# Altium footprint library Con_PcbLib.PcbLib: 98 footprints (part 5 of 7)
Each footprint in its own frame and in the unit in brackets; x right, y up, seen from the top. Pads: shape width x height; smd on the part's side, far side on the other; paste and mask are expansions set on the pad; w line width, h text height; cw(c..) or ccw(c..) is an arc to the next point about the centre after c.
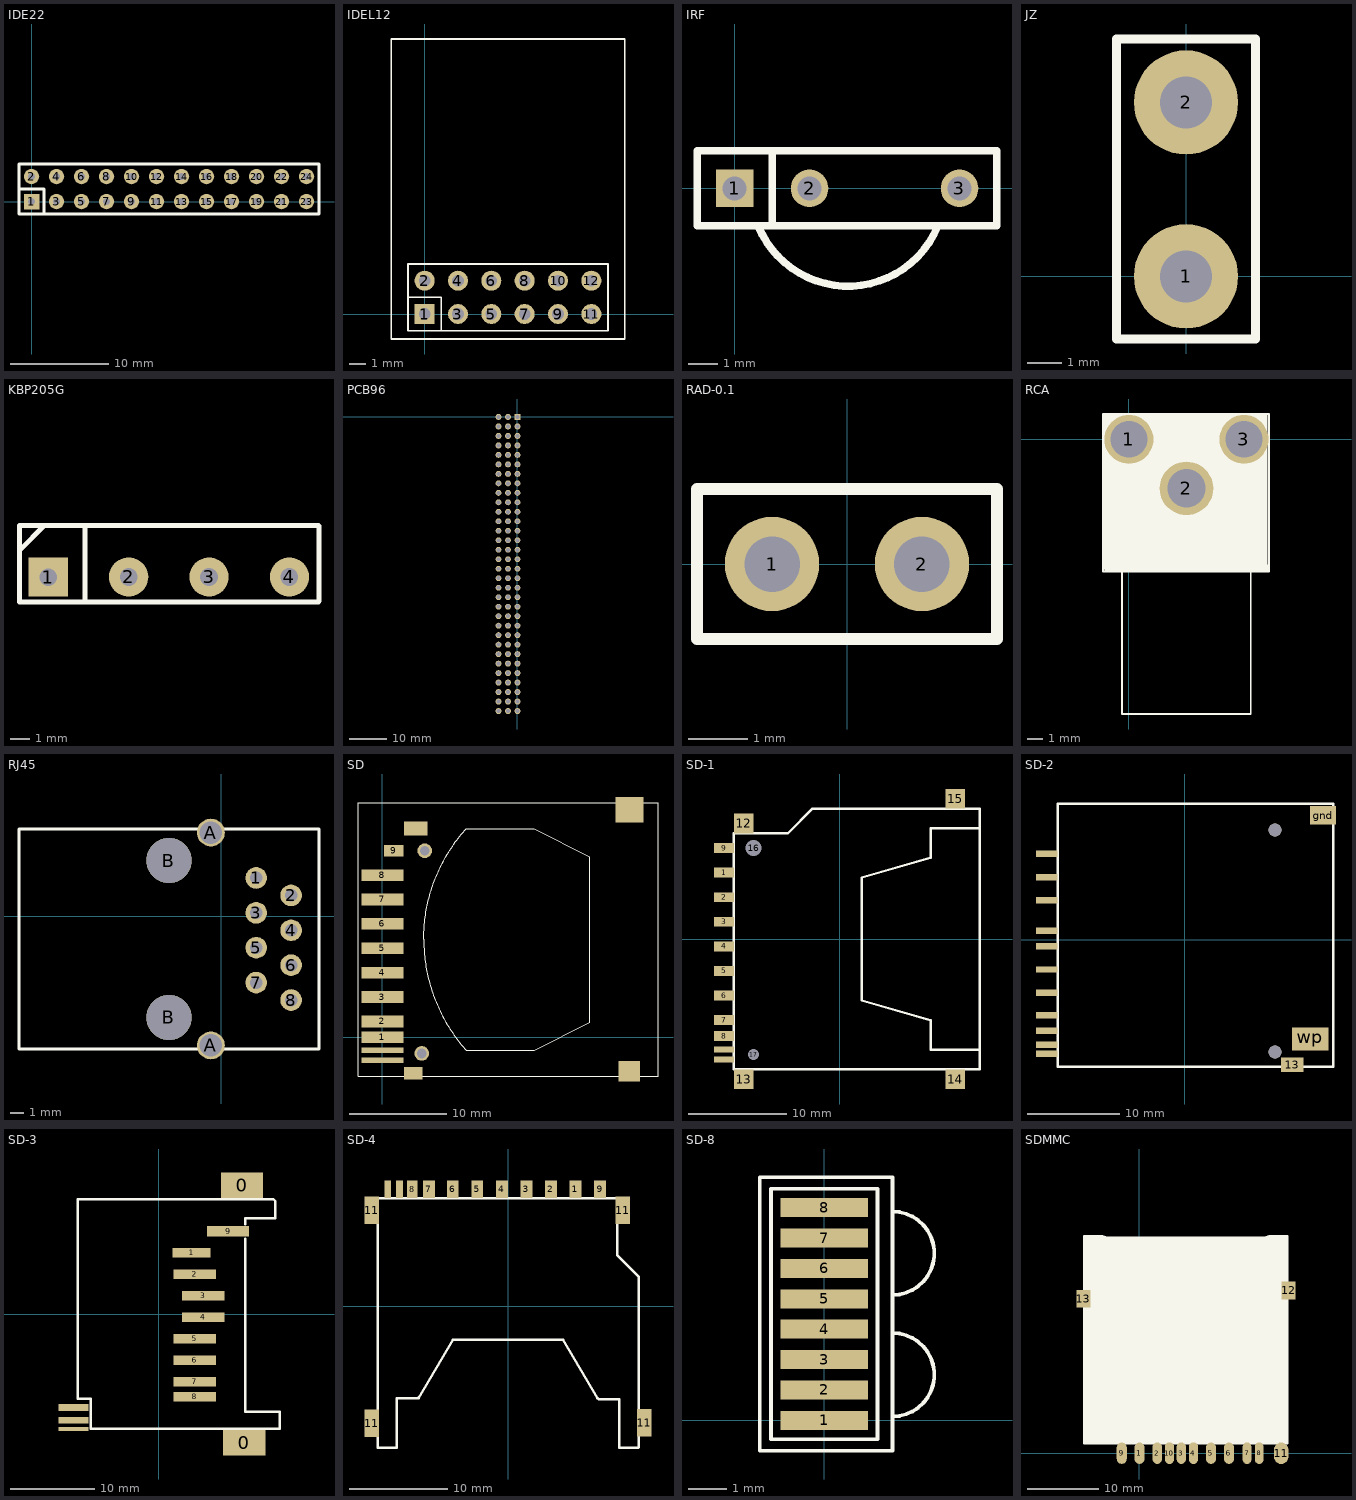
[diagram p4: the footprints below, top view; thin cyan lines are the x and y axes]

## IDE22 [mil]
pads (24):
  rect 62x62 hole 28: 1(0,0)
  round 62 hole 28: 2(0,100) 3(100,0) 4(100,100) 5(200,0) 6(200,100) 7(300,0) 8(300,100) 9(400,0) 10(400,100) 11(500,0) 12(500,100) 13(600,0) 14(600,100) 15(700,0) 16(700,100) 17(800,0) 18(800,100) 19(900,0) 20(900,100) 21(1000,0) 22(1000,100) 23(1100,0) 24(1100,100)
Top Overlay:
  lines w12: -50,50 50,50 50,-50 ; -50,-50 -50,150 1150,150 1150,-50 -50,-50

## IDEL12 [mm]
pads (12):
  rect 1.2x1.2 hole 0.7: 1(0,0)
  round 1.2 hole 0.7: 2(0,2) 3(2,0) 4(2,2) 5(4,0) 6(4,2) 7(6,0) 8(6,2) 9(8,0) 10(8,2) 11(10,0) 12(10,2)
Top Overlay:
  lines w0.1: -1,1 1,1 1,-1 ; -2,-1.5 -2,16.5 12,16.5 12,-1.5 -2,-1.5 ; -1,-1 -1,3 11,3 11,-1 -1,-1

## IRF [mil]
pads (3):
  rect 50x50 hole 32: 1(0,0)
  round 50 hole 32: 2(100,0) 3(300,0)
Top Overlay:
  lines w10: 31.5,-50 ccw(c151.36,-0.89) 270.94,-50.69 ; 50,-50 50,50 ; -50,-50 -50,50 350,50 350,-50 -50,-50

## JZ [mm]
pads (2):
  round 3 hole 1.5: 1(0,0) 2(0,5)
Top Overlay:
  lines w0.254: -2,-1.8 2,-1.8 2,6.825 -2,6.825 -2,-1.8

## KBP205G [mm]
pads (4):
  rect 2x2 hole 0.9: 1(-100.14,26.67)
  round 2 hole 0.9: 2(-96.04,26.68) 3(-91.94,26.68) 4(-87.84,26.68)
Top Overlay:
  lines w0.254: -101.61,25.4 -101.61,29.3 -86.364,29.3 cw(c-86.364,29.266) -86.34,29.29 -86.34,25.458 cw(c-86.408,25.458) -86.36,25.41 cw(c-86.384,25.434) -86.384,25.4 -101.6,25.4 ; -101.61,28.04 ccw(c-101.61,28.064) -101.593,28.047 -100.34,29.3 ; -98.27,29.3 -98.27,25.448 ccw(c-98.202,25.448) -98.25,25.4

## PCB96 [mil]
pads (96):
  rect 62x62 hole 42: A1(0,0)
  round 62 hole 42: A2(0,-100) A3(0,-200) A4(0,-300) A5(0,-400) A6(0,-500) A7(0,-600) A8(0,-700) A9(0,-800) A10(0,-900) A11(0,-1000) A12(0,-1100) A13(0,-1200) A14(0,-1300) A15(0,-1400) A16(0,-1500) A17(0,-1600) A18(0,-1700) A19(0,-1800) A20(0,-1900) A21(0,-2000) A22(0,-2100) A23(0,-2200) A24(0,-2300) A25(0,-2400) A26(0,-2500) A27(0,-2600) A28(0,-2700) A29(0,-2800) A30(0,-2900) A31(0,-3000) A32(0,-3100) B1(-100,0) B2(-100,-100) B3(-100,-200) B4(-100,-300) B5(-100,-400) B6(-100,-500) B7(-100,-600) B8(-100,-700) B9(-100,-800) B10(-100,-900) B11(-100,-1000) B12(-100,-1100) B13(-100,-1200) B14(-100,-1300) B15(-100,-1400) B16(-100,-1500) B17(-100,-1600) B18(-100,-1700) B19(-100,-1800) B20(-100,-1900) B21(-100,-2000) B22(-100,-2100) B23(-100,-2200) B24(-100,-2300) B25(-100,-2400) B26(-100,-2500) B27(-100,-2600) B28(-100,-2700) B29(-100,-2800) B30(-100,-2900) B31(-100,-3000) B32(-100,-3100) C1(-200,0) C2(-200,-100) C3(-200,-200) C4(-200,-300) C5(-200,-400) C6(-200,-500) C7(-200,-600) C8(-200,-700) C9(-200,-800) C10(-200,-900) C11(-200,-1000) C12(-200,-1100) C13(-200,-1200) C14(-200,-1300) C15(-200,-1400) C16(-200,-1500) C17(-200,-1600) C18(-200,-1700) C19(-200,-1800) C20(-200,-1900) C21(-200,-2000) C22(-200,-2100) C23(-200,-2200) C24(-200,-2300) C25(-200,-2400) C26(-200,-2500) C27(-200,-2600) C28(-200,-2700) C29(-200,-2800) C30(-200,-2900) C31(-200,-3000) C32(-200,-3100)

## RAD-0.1 [mm]
pads (2):
  round 1.6 hole 0.94: 1(-1.27,0) 2(1.27,0)
Top Overlay:
  lines w0.2: -2.54,-1.27 -2.54,1.27 2.54,1.27 2.54,-1.27 -2.54,-1.27

## RCA [mm]
pads (3):
  round 3.2 hole 2.4: 1(0,0) 3(7.5,0)
  round 3.5 hole 2.5: 2(3.75,-3.2)
Top Overlay:
  rectangle: -1.676,-8.487 9.042,1.571
  rectangle: -1.6,-8.589 9.119,-8.157
  lines w0.127: -1.626,-8.611 9.119,-8.611 9.119,-8.433 ; -1.549,1.651 9.119,1.651 9.119,1.397 ; -1.473,-8.611 -1.676,-8.611 -1.676,-8.5 -1.676,1.651 -1.422,1.651 ; -0.457,-8.611 -0.457,-17.911 7.943,-17.911 7.943,-8.654 7.899,-8.611 ; 9.119,-8.5 9.119,1.448

## RJ45 [mil]
pads (12):
  round 62 hole 36: 1(100,110) 2(200,60) 3(100,10) 4(200,-40) 5(100,-90) 6(200,-140) 7(100,-190) 8(200,-240)
  round 80 hole 65: A(-30,-370) A(-30,240)
  round 130 hole 130: B(-150,-290) B(-150,160)
Top Overlay:
  lines w8: -580,-380 280,-380 280,250 -580,250 -580,-380

## SD [mil]
pads (17):
  rect 169.3x47.2 smd: 1(0,0) 2(0,64) 3(0,162.4) 4(0,260.8) 5(0,359.2) 6(0,457.7) 7(0,556.1) 8(0,654.5)
  rect 78.7x47.2 smd: 9(45.3,752.9)
  rect 169.3x23.62 smd: 10(0,-52.19) 11(0,-92.57)
  rect 74.8x51.2 smd: ""(125,-144.7)
  rect 94.5x55.1 smd: ""(133.86,842.5)
  round 59.1 hole 39.37: ""(159.02,-65.01) ""(170.83,752.9)
  rect 86.6x82.7 smd: ""(997,-136.8)
  rect 114.2x102.4 smd: ""(997,918.26)
Top Overlay:
  lines w3.94: -98.42,-156.5 -98.42,945.8 1112.2,945.8 1112.2,-156.5 -98.42,-156.5 ; 166.93,394.7 167.03,384.6 167.23,374.6 167.63,364.6 168.13,354.6 168.83,344.6 169.63,334.7 170.63,324.7 171.73,314.8 172.93,304.8 174.43,294.9 175.93,285 177.63,275.2 179.53,265.3 181.53,255.5 183.73,245.7 186.03,236 188.43,226.3 191.03,216.6 193.73,207 196.63,197.4 199.63,187.8 202.83,178.3 206.13,168.9 209.63,159.5 213.23,150.1 216.93,140.8 220.83,131.6 224.83,122.4 228.93,113.3 233.23,104.3 237.63,95.3 242.13,86.4 246.83,77.5 251.63,68.7 256.63,60 261.63,51.4 266.83,42.8 272.23,34.3 277.63,25.9 283.23,17.6 288.93,9.4 294.73,1.3 300.73,-6.8 306.73,-14.8 312.93,-22.6 319.23,-30.4 325.63,-38.1 332.23,-45.7 338.83,-53.2 612.83,-53.2 836.23,60 836.23,729.3 612.83,842.5 338.83,842.5 332.23,835 325.63,827.4 319.23,819.7 312.93,812 306.73,804.1 300.73,796.1 294.73,788.1 288.93,779.9 283.23,771.7 277.63,763.4 272.23,755 266.83,746.5 261.63,737.9 256.63,729.3 251.63,720.6 246.83,711.8 242.13,703 237.63,694 233.23,685.1 228.93,676 224.83,666.9 220.83,657.7 216.93,648.5 213.23,639.2 209.63,629.8 206.13,620.4 202.83,611 199.63,601.5 196.63,591.9 193.73,582.4 191.03,572.7 188.43,563 186.03,553.3 183.73,543.6 181.53,533.8 179.53,524 177.63,514.2 175.93,504.3 174.43,494.4 172.93,484.5 171.73,474.6 170.63,464.6 169.63,454.7 168.83,444.7 168.13,434.7 167.63,424.7 167.23,414.7 167.03,404.7 166.93,394.7

## SD-1 [mm]
pads (17):
  rect 2x1 smd: 1(-11.75,6.75) 2(-11.75,4.25) 3(-11.75,1.75) 4(-11.75,-0.75) 5(-11.75,-3.25) 6(-11.75,-5.75) 7(-11.75,-8.25) 8(-11.75,-9.875) 9(-11.75,9.25)
  rect 2x0.6 smd: 10(-11.75,-12.25) 11(-11.75,-11.25)
  rect 2x2 smd: 12(-9.75,11.75) 13(-9.75,-14.25) 14(11.75,-14.25) 15(11.75,14.25)
  round 1.5 hole 1.6: 16(-8.75,9.25)
  round 1 hole 1.1: 17(-8.75,-11.75)
Top Overlay:
  lines w0.254: 14.25,-11.25 9.25,-11.25 9.25,-8.25 2.25,-6.25 2.25,6.25 9.25,8.25 9.25,11.25 14.25,11.25 ; -10.75,-13.25 -10.75,10.75 -5.25,10.75 -2.75,13.25 14.25,13.25 14.25,-13.25 -10.75,-13.25

## SD-2 [mm]
pads (14):
  rect 2.35x0.7 smd: 1(-14.935,6.8) 2(-14.935,4.3) 3(-14.935,1) 4(-14.935,-0.7) 5(-14.935,-3.2) 6(-14.935,-5.7) 7(-14.935,-8.13) 8(-14.935,-9.82) 9(-14.935,9.3) cd(-14.935,-11.32) com(-14.935,-12.32)
  rect 2.4x1.6 smd: 13(11.595,-13.5)
  rect 2.8x2 smd: gnd(14.935,13.5)
  rect 3.95x2.5 smd: wp(13.565,-10.7)
via 9.735,11.9 diameter 1.4 hole 1.4
via 9.735,-12.1 diameter 1.4 hole 1.4
Top Overlay:
  lines w0.254: -13.76,-13.72 16.045,-13.72 16.045,14.72 -13.76,14.72 -13.76,-13.72

## SD-3 [mm]
pads (14):
  rect 5x3 smd: 0(9.843,15.24) 0(10.097,-15.24)
  rect 4.5x1.143 smd: 1(3.874,7.239)
  rect 5x1.143 smd: 2(4.255,4.699) 3(5.271,2.159) 4(5.271,-0.381) 5(4.255,-2.921) 6(4.255,-5.461) 7(4.255,-8.001) 8(4.255,-9.779)
  rect 5x1.27 smd: 9(8.192,9.779)
  rect 3.556x0.8 smd: 10(-10.097,-11.049) 11(-10.097,-12.573)
  rect 3.556x0.5 smd: 12(-10.097,-13.589)
Top Overlay:
  lines w0.3: 7.683,-13.589 14.287,-13.589 14.287,-11.557 10.223,-11.557 10.223,8.889 ; 8.191,-13.589 -8.065,-13.589 -8.065,-10.033 -9.589,-10.033 -9.589,13.589 8.191,13.589 13.525,13.589 13.779,13.335 13.779,11.303 10.223,11.303 10.223,10.59

## SD-4 [mm]
pads (15):
  rect 1.2x1.8 smd: 1(6.858,11.917) 2(4.369,11.917) 3(1.875,11.908) 4(-0.625,11.908) 5(-3.125,11.908) 6(-5.625,11.908) 7(-8.05,11.908) 9(9.375,11.908)
  rect 1.1x1.8 smd: 8(-9.754,11.917)
  rect 0.7x1.8 smd: 10(-11.05,11.908) 12(-12.243,11.917)
  rect 1.5x2.8 smd: 11(-13.868,-11.917) 11(-13.868,9.774) 11(11.684,9.774) 11(13.868,-11.866)
Top Overlay:
  lines w0.254: -11.3,-9.383 -11.3,-14.383 -13.273,-14.383 -13.273,11.003 -13.259,11.017 11.1,11.017 11.1,5.207 13.289,3.018 13.3,3.018 13.3,-14.356 13.273,-14.383 11.3,-14.383 11.3,-9.484 9.258,-9.484 9.1,-9.326 ; -11.249,-9.377 -9.207,-9.377 -9.049,-9.219 ; -9.1,-9.377 -5.588,-3.383 ; -5.6,-3.383 5.6,-3.383 9.1,-9.377
Multi-Layer:
  circle w0.254: c9.5,8.657 r0.82
  circle w0.254: c-11.532,8.617 r0.58

## SD-8 [mm]
pads (8):
  rect 2.3x0.5 smd: 1(0,0) 2(0,0.8) 3(0,1.6) 4(0,2.4) 5(0,3.2) 6(0,4) 7(0,4.8) 8(0,5.6)
Top Overlay:
  lines w0.1: 1.8,0.102 ccw(c1.8,1.201) 1.8,2.3 ; 1.8,3.3 ccw(c1.8,4.399) 1.8,5.498 ; -1.7,-0.8 1.8,-0.8 1.8,6.4 -1.7,6.4 -1.7,-0.8 ; -1.4,-0.5 1.4,-0.5 1.4,6.1 -1.4,6.1 -1.4,-0.5

## SDMMC [mm]
pads (13):
  oval 1.4x3 smd: 1(0,0) 5(9.982,0) 6(12.497,0) 9(-2.464,0)
  oval 1.3x3 smd: 2(2.489,0) 3(5.842,0) 4(7.544,0) 10(4.191,0)
  oval 1.2x3 smd: 7(15.011,0) 8(16.713,0)
  oval 2x3 smd: 11(19.774,-0.013)
  rect 2x2.5 smd: 12(20.8,22.708) 13(-7.8,21.539)
Top Overlay:
  rectangle: -7.762,19.717 20.66,30.258
  rectangle: -7.661,1.429 20.635,19.844
  lines w0.203: -7.786,1.338 -7.786,30.338 -5.369,30.338 cw(c-5.369,28.338) -3.397,28.671 ccw(c6.464,30.338) 16.324,28.671 cw(c18.296,28.338) 18.296,30.338 20.714,30.338 20.714,1.338 -7.786,1.338
Keep-Out Layer:
  circle w0.203: c19.039,24.838 r0.8
  lines w0.203: -5.581,24.338 -5.581,25.338 ; -5.581,24.562 -5.581,24.282 ccw(c-5.281,24.282) -5.281,23.982 ; -5.581,25.375 cw(c-5.281,25.375) -5.281,25.675 ; -5.301,23.988 -5.061,23.988 ; -5.241,25.675 -5.041,25.675 cw(c-5.041,25.375) -4.741,25.375 ; -5.041,23.982 ccw(c-5.041,24.282) -4.741,24.282 -4.741,24.638 ; -4.741,24.338 -4.741,25.338